# Altium footprint library Аналоговые-mm.PcbLib: 44 footprints (part 2 of 3)
Each footprint in its own frame and in the unit in brackets; x right, y up, seen from the top. Pads: shape width x height; smd on the part's side, far side on the other; paste and mask are expansions set on the pad; w line width, h text height; cw(c..) or ccw(c..) is an arc to the next point about the centre after c.
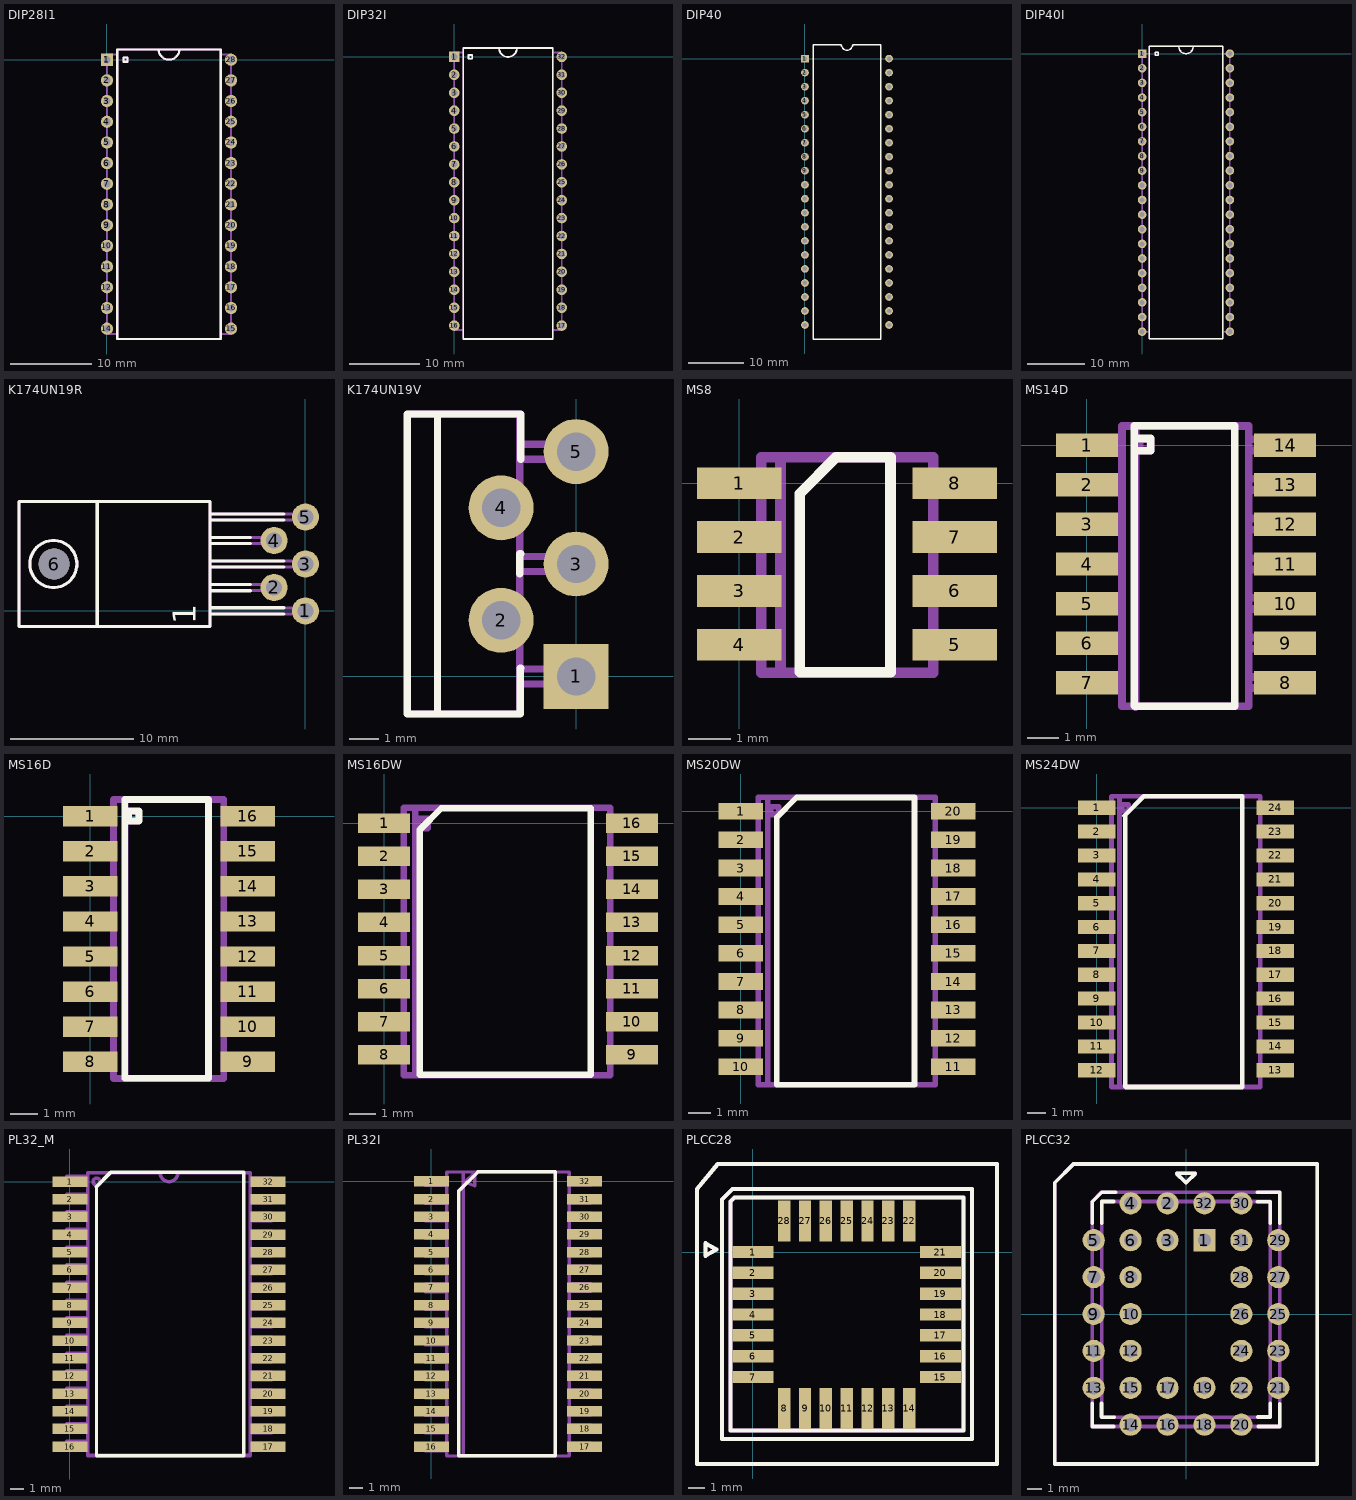
[diagram p1: the footprints below, top view; thin cyan lines are the x and y axes]

## DIP28I1 [mm]
pads (28):
  rect 1.5x1.5 hole 0.9: 1(0,0)
  round 1.5 hole 0.9: 2(0,-2.54) 3(0,-5.08) 4(0,-7.62) 5(0,-10.16) 6(0,-12.7) 7(0,-15.24) 8(0,-17.78) 9(0,-20.32) 10(0,-22.86) 11(0,-25.4) 12(0,-27.94) 13(0,-30.48) 14(0,-33.02) 15(15.24,-33.02) 16(15.24,-30.48) 17(15.24,-27.94) 18(15.24,-25.4) 19(15.24,-22.86) 20(15.24,-20.32) 21(15.24,-17.78) 22(15.24,-15.24) 23(15.24,-12.7) 24(15.24,-10.16) 25(15.24,-7.62) 26(15.24,-5.08) 27(15.24,-2.54) 28(15.24,0)
Top Overlay:
  lines w0.254: 6.35,1.272 ccw(c7.62,1.27) 8.89,1.27 ; 1.27,-34.29 13.97,-34.29 13.97,1.27 1.27,1.27 1.27,-34.29 ; 2.032,-0.254 2.032,0.254 2.54,0.254 2.54,-0.254 2.032,-0.254
Mechanical 1:
  lines w0.254: 1.27,-33.655 0,-33.655 0,0.635 1.27,0.635 ; 6.35,1.272 ccw(c7.62,1.27) 8.89,1.27 ; 13.97,-33.655 15.24,-33.655 15.24,0.635 13.97,0.635 ; 1.27,-34.29 13.97,-34.29 13.97,1.27 1.27,1.27 1.27,-34.29 ; 2.032,-0.254 2.032,0.254 2.54,0.254 2.54,-0.254 2.032,-0.254

## DIP32I [mm]
pads (32):
  rect 1.5x1.5 hole 0.9: 1(0,0)
  round 1.5 hole 0.9: 2(0,-2.54) 3(0,-5.08) 4(0,-7.62) 5(0,-10.16) 6(0,-12.7) 7(0,-15.24) 8(0,-17.78) 9(0,-20.32) 10(0,-22.86) 11(0,-25.4) 12(0,-27.94) 13(0,-30.48) 14(0,-33.02) 15(0,-35.56) 16(0,-38.1) 17(15.24,-38.1) 18(15.24,-35.56) 19(15.24,-33.02) 20(15.24,-30.48) 21(15.24,-27.94) 22(15.24,-25.4) 23(15.24,-22.86) 24(15.24,-20.32) 25(15.24,-17.78) 26(15.24,-15.24) 27(15.24,-12.7) 28(15.24,-10.16) 29(15.24,-7.62) 30(15.24,-5.08) 31(15.24,-2.54) 32(15.24,0)
Top Overlay:
  lines w0.25: 6.35,1.272 ccw(c7.62,1.27) 8.89,1.27 ; 1.27,-40.005 13.97,-40.005 13.97,1.27 1.27,1.27 1.27,-40.005 ; 2.032,-0.254 2.54,-0.254 2.54,0.254 2.032,0.254 2.032,-0.254
Mechanical 1:
  lines w0.25: 1.27,-38.735 0,-38.735 0,0.635 1.27,0.635 ; 6.35,1.272 ccw(c7.62,1.27) 8.89,1.27 ; 13.97,-38.735 15.24,-38.735 15.24,0.635 13.97,0.635 ; 1.27,-40.005 13.97,-40.005 13.97,1.27 1.27,1.27 1.27,-40.005 ; 2.032,-0.254 2.54,-0.254 2.54,0.254 2.032,0.254 2.032,-0.254

## DIP40 [mm]
pads (40):
  rect 1.4x1.4 hole 0.8: 1(0,0)
  round 1.4 hole 0.8: 2(0,-2.54) 3(0,-5.08) 4(0,-7.62) 5(0,-10.16) 6(0,-12.7) 7(0,-15.24) 8(0,-17.78) 9(0,-20.32) 10(0,-22.86) 11(0,-25.4) 12(0,-27.94) 13(0,-30.48) 14(0,-33.02) 15(0,-35.56) 16(0,-38.1) 17(0,-40.64) 18(0,-43.18) 19(0,-45.72) 20(0,-48.26) 21(15.24,-48.26) 22(15.24,-45.72) 23(15.24,-43.18) 24(15.24,-40.64) 25(15.24,-38.1) 26(15.24,-35.56) 27(15.24,-33.02) 28(15.24,-30.48) 29(15.24,-27.94) 30(15.24,-25.4) 31(15.24,-22.86) 32(15.24,-20.32) 33(15.24,-17.78) 34(15.24,-15.24) 35(15.24,-12.7) 36(15.24,-10.16) 37(15.24,-7.62) 38(15.24,-5.08) 39(15.24,-2.54) 40(15.24,0)
Top Overlay:
  lines w0.254: 1.524,-50.8 13.716,-50.8 13.716,2.54 8.636,2.54 cw(c7.62,2.54) 6.604,2.54 1.524,2.54 1.524,-50.8

## DIP40I [mm]
pads (40):
  rect 1.5x1.5 hole 0.9: 1(0,0)
  round 1.5 hole 0.9: 2(0,-2.54) 3(0,-5.08) 4(0,-7.62) 5(0,-10.16) 6(0,-12.7) 7(0,-15.24) 8(0,-17.78) 9(0,-20.32) 10(0,-22.86) 11(0,-25.4) 12(0,-27.94) 13(0,-30.48) 14(0,-33.02) 15(0,-35.56) 16(0,-38.1) 17(0,-40.64) 18(0,-43.18) 19(0,-45.72) 20(0,-48.26) 21(15.24,-48.26) 22(15.24,-45.72) 23(15.24,-43.18) 24(15.24,-40.64) 25(15.24,-38.1) 26(15.24,-35.56) 27(15.24,-33.02) 28(15.24,-30.48) 29(15.24,-27.94) 30(15.24,-25.4) 31(15.24,-22.86) 32(15.24,-20.32) 33(15.24,-17.78) 34(15.24,-15.24) 35(15.24,-12.7) 36(15.24,-10.16) 37(15.24,-7.62) 38(15.24,-5.08) 39(15.24,-2.54) 40(15.24,0)
Top Overlay:
  lines w0.25: 6.35,1.272 ccw(c7.62,1.27) 8.89,1.27 ; 1.27,-49.53 13.97,-49.53 13.97,1.27 1.27,1.27 1.27,-49.53 ; 2.286,-0.254 2.286,0.254 2.794,0.254 2.794,-0.254 2.286,-0.254
Mechanical 1:
  lines w0.25: 1.27,-48.26 0,-48.26 0,0 1.27,0 ; 6.35,1.272 ccw(c7.62,1.27) 8.89,1.27 ; 13.97,-48.26 15.24,-48.26 15.24,0 13.97,0 ; 1.27,-49.53 13.97,-49.53 13.97,1.27 1.27,1.27 1.27,-49.53 ; 2.286,-0.254 2.286,0.254 2.794,0.254 2.794,-0.254 2.286,-0.254

## K174UN19R [mm]
pads (6):
  round 2.2 hole 1.3: 1(0,0) 2(-2.54,1.905) 3(0,3.81) 4(-2.54,5.715) 5(0,7.62)
  round 2.5 hole 2.5: 6(-20.396,3.81)
Top Overlay:
  circle w0.25: c-20.447,3.81 r1.905
  lines w0.25: -16.891,-1.27 -16.891,8.89 ; -7.751,3.555 -1.755,3.555 ; -7.744,7.882 -1.748,7.882 ; -7.737,-0.234 -1.741,-0.234 ; -7.737,0.259 -1.741,0.259 ; -7.737,4.049 -1.741,4.049 ; -7.737,7.374 -1.741,7.374 ; -7.73,1.639 -4.448,1.639 ; -7.73,2.161 -4.448,2.161 ; -7.73,5.458 -4.448,5.458 ; -7.73,5.966 -4.448,5.966 ; -23.241,-1.27 -7.747,-1.27 -7.747,8.89 -23.241,8.89 -23.241,-1.27
  text "1" at -8.275,-1.091 h3.17
Mechanical 1:
  circle w0.25: c-20.447,3.81 r1.905
  lines w0.25: -16.891,-1.27 -16.891,8.89 ; -7.747,-0.254 -0.635,-0.254 -0.635,0.254 -7.747,0.254 ; -7.747,1.651 -3.175,1.651 -3.175,2.159 -7.747,2.159 ; -7.747,3.556 -0.635,3.556 -0.635,4.064 -7.747,4.064 ; -7.747,5.461 -3.175,5.461 -3.175,5.969 -7.747,5.969 ; -7.747,7.366 -0.635,7.366 -0.635,7.874 -7.747,7.874 ; -23.241,-1.27 -7.747,-1.27 -7.747,8.89 -23.241,8.89 -23.241,-1.27

## K174UN19V [mm]
pads (5):
  rect 2.2x2.2 hole 1.3: 1(0,0)
  round 2.2 hole 1.3: 2(-2.54,1.905) 3(0,3.81) 4(-2.54,5.715) 5(0,7.62)
Top Overlay:
  lines w0.25: -4.7,-1.254 -4.7,8.877 ; -1.917,3.481 -1.917,4.16 -1.883,4.16 ; -1.883,0.273 -1.9,0.273 -1.9,-1.271 -5.719,-1.271 -5.719,6.722 -5.719,8.894 -2.766,8.894 -1.883,8.894 -1.883,7.367
Mechanical 1:
  lines w0.25: -1.905,-0.254 -0.635,-0.254 -0.635,0.254 -1.905,0.254 ; -1.905,3.556 -0.635,3.556 -0.635,4.064 -1.905,4.064 ; -1.905,7.366 -0.635,7.366 -0.635,7.874 -1.905,7.874 ; -4.699,-1.27 -5.715,-1.27 -5.715,8.89 -4.699,8.89 ; -4.699,-1.27 -4.699,8.89 ; -4.699,-1.27 -1.905,-1.27 -1.905,8.89 -4.699,8.89

## MS8 [mm]
pads (8):
  rect 2x0.75 smd: 1(0,0) 2(0,-1.27) 3(0,-2.54) 4(0,-3.81) 5(5.08,-3.81) 6(5.08,-2.54) 7(5.08,-1.27) 8(5.08,0)
Top Overlay:
  lines w0.25: 1.424,-4.446 1.424,-0.244 2.28,0.612 3.468,0.612 3.566,0.612 3.566,0.602 3.566,-4.456 1.434,-4.456 1.424,-4.446
Mechanical 1:
  lines w0.25: 0.514,-3.994 -0.502,-3.994 -0.502,-3.638 0.514,-3.638 ; 0.514,-2.729 -0.502,-2.729 -0.502,-2.373 0.514,-2.373 ; 0.514,-1.453 -0.502,-1.453 -0.502,-1.098 0.514,-1.098 ; 0.514,-0.178 -0.502,-0.178 -0.502,0.178 0.514,0.178 ; 0.971,-4.47 0.971,0.584 ; 4.578,-2.719 5.594,-2.719 5.594,-2.363 4.578,-2.363 ; 4.578,-1.453 5.594,-1.453 5.594,-1.098 4.578,-1.098 ; 4.578,-0.178 5.594,-0.178 5.594,0.178 4.578,0.178 ; 4.588,-3.984 5.604,-3.984 5.604,-3.628 4.588,-3.628 ; 0.514,-4.47 4.578,-4.47 4.578,0.61 0.514,0.61 0.514,-4.47

## MS14D [mm]
pads (14):
  rect 2x0.75 smd: 1(0,0) 2(0,-1.27) 3(0,-2.54) 4(0,-3.81) 5(0,-5.08) 6(0,-6.35) 7(0,-7.62) 8(6.35,-7.62) 9(6.35,-6.35) 10(6.35,-5.08) 11(6.35,-3.81) 12(6.35,-2.54) 13(6.35,-1.27) 14(6.35,0)
Top Overlay:
  lines w0.25: 1.516,-8.356 1.516,0.621 4.741,0.621 4.741,-8.373 1.533,-8.373 ; 1.635,-0.176 2.026,-0.176 2.043,-0.176 2.043,0.214 1.669,0.214
Mechanical 1:
  lines w0.25: 1.104,-6.525 -0.217,-6.525 -0.217,-6.169 1.104,-6.169 ; 1.124,-7.8 -0.197,-7.8 -0.197,-7.445 1.124,-7.445 ; 1.124,-5.259 -0.197,-5.259 -0.197,-4.904 1.124,-4.904 ; 1.124,-3.994 -0.197,-3.994 -0.197,-3.638 1.124,-3.638 ; 1.124,-2.709 -0.197,-2.709 -0.197,-2.353 1.124,-2.353 ; 1.124,-1.443 -0.197,-1.443 -0.197,-1.088 1.124,-1.088 ; 1.124,-0.168 -0.197,-0.168 -0.197,0.188 1.124,0.188 ; 1.555,-8.397 1.555,0.594 ; 5.188,-7.79 6.508,-7.79 6.508,-7.435 5.188,-7.435 ; 5.188,-5.249 6.508,-5.249 6.508,-4.894 5.188,-4.894 ; 5.188,-3.984 6.508,-3.984 6.508,-3.628 5.188,-3.628 ; 5.188,-2.709 6.508,-2.709 6.508,-2.353 5.188,-2.353 ; 5.188,-1.433 6.508,-1.433 6.508,-1.078 5.188,-1.078 ; 5.188,-0.168 6.508,-0.168 6.508,0.188 5.188,0.188 ; 5.198,-6.525 6.518,-6.525 6.518,-6.169 5.198,-6.169 ; 1.124,-8.372 5.188,-8.372 5.188,0.62 1.124,0.62 1.124,-8.372 ; 1.682,-0.168 1.682,0.188 2.038,0.188 2.038,-0.168 1.682,-0.168

## MS16D [mm]
pads (16):
  rect 2x0.75 smd: 1(0,0) 2(0,-1.295) 3(0,-2.591) 4(0,-3.886) 5(0,-5.182) 6(0,-6.477) 7(0,-7.772) 8(0,-9.068) 9(5.817,-9.068) 10(5.817,-7.772) 11(5.817,-6.477) 12(5.817,-5.182) 13(5.817,-3.886) 14(5.817,-2.591) 15(5.817,-1.295) 16(5.817,0)
Top Overlay:
  lines w0.25: 1.277,-9.67 1.277,0.614 4.365,0.614 4.365,-9.67 1.294,-9.67 ; 1.362,0.19 1.803,0.19 1.803,-0.184 1.786,-0.184 1.412,-0.184 1.412,0.173
Mechanical 1:
  lines w0.254: 0.864,-9.246 -0.457,-9.246 -0.457,-8.89 0.864,-8.89 ; 0.864,-7.95 -0.457,-7.95 -0.457,-7.595 0.864,-7.595 ; 0.864,-6.655 -0.457,-6.655 -0.457,-6.299 0.864,-6.299 ; 0.864,-5.359 -0.457,-5.359 -0.457,-5.004 0.864,-5.004 ; 0.864,-4.064 -0.457,-4.064 -0.457,-3.708 0.864,-3.708 ; 0.864,-2.769 -0.457,-2.769 -0.457,-2.413 0.864,-2.413 ; 0.864,-1.473 -0.457,-1.473 -0.457,-1.118 0.864,-1.118 ; 0.864,-0.178 -0.457,-0.178 -0.457,0.178 0.864,0.178 ; 1.295,-9.677 1.295,0.584 ; 4.928,-9.246 6.248,-9.246 6.248,-8.89 4.928,-8.89 ; 4.928,-7.95 6.248,-7.95 6.248,-7.595 4.928,-7.595 ; 4.928,-6.655 6.248,-6.655 6.248,-6.299 4.928,-6.299 ; 4.928,-5.359 6.248,-5.359 6.248,-5.004 4.928,-5.004 ; 4.928,-4.064 6.248,-4.064 6.248,-3.708 4.928,-3.708 ; 4.928,-2.769 6.248,-2.769 6.248,-2.413 4.928,-2.413 ; 4.928,-1.473 6.248,-1.473 6.248,-1.118 4.928,-1.118 ; 4.928,-0.178 6.248,-0.178 6.248,0.178 4.928,0.178 ; 0.864,-9.677 4.928,-9.677 4.928,0.61 0.864,0.61 0.864,-9.677 ; 1.422,-0.178 1.422,0.178 1.778,0.178 1.778,-0.178 1.422,-0.178

## MS16DW [mm]
pads (16):
  rect 2x0.75 smd: 1(0,0) 2(0,-1.27) 3(0,-2.54) 4(0,-3.81) 5(0,-5.08) 6(0,-6.35) 7(0,-7.62) 8(0,-8.89) 9(9.525,-8.89) 10(9.525,-7.62) 11(9.525,-6.35) 12(9.525,-5.08) 13(9.525,-3.81) 14(9.525,-2.54) 15(9.525,-1.27) 16(9.525,0)
Top Overlay:
  lines w0.25: 1.38,-9.666 1.38,-0.24 2.2,0.58 7.934,0.58 7.934,-9.666 1.398,-9.666
Mechanical 1:
  lines w0.25: 0.754,-6.515 -0.567,-6.515 -0.567,-6.159 0.754,-6.159 ; 0.764,-9.066 -0.557,-9.066 -0.557,-8.71 0.764,-8.71 ; 0.764,-7.81 -0.557,-7.81 -0.557,-7.455 0.764,-7.455 ; 0.764,-5.259 -0.557,-5.259 -0.557,-4.904 0.764,-4.904 ; 0.764,-3.974 -0.557,-3.974 -0.557,-3.618 0.764,-3.618 ; 0.764,-2.709 -0.557,-2.709 -0.557,-2.353 0.764,-2.353 ; 0.764,-1.453 -0.557,-1.453 -0.557,-1.098 0.764,-1.098 ; 0.764,-0.188 -0.557,-0.188 -0.557,0.168 0.764,0.168 ; 1.195,-9.687 1.195,0.574 ; 8.688,-7.8 10.009,-7.8 10.009,-7.445 8.688,-7.445 ; 8.688,-6.535 10.009,-6.535 10.009,-6.179 8.688,-6.179 ; 8.688,-5.259 10.009,-5.259 10.009,-4.904 8.688,-4.904 ; 8.688,-3.994 10.009,-3.994 10.009,-3.638 8.688,-3.638 ; 8.688,-2.729 10.009,-2.729 10.009,-2.373 8.688,-2.373 ; 8.688,-1.453 10.009,-1.453 10.009,-1.098 8.688,-1.098 ; 8.688,-0.188 10.009,-0.188 10.009,0.168 8.688,0.168 ; 8.698,-9.066 10.019,-9.066 10.019,-8.71 8.698,-8.71 ; 0.764,-9.687 8.688,-9.687 8.688,0.6 0.764,0.6 0.764,-9.687 ; 1.322,-0.188 1.322,0.168 1.678,0.168 1.678,-0.188 1.322,-0.188

## MS20DW [mm]
pads (20):
  rect 2x0.75 smd: 1(0,0) 2(0,-1.27) 3(0,-2.54) 4(0,-3.81) 5(0,-5.08) 6(0,-6.35) 7(0,-7.62) 8(0,-8.89) 9(0,-10.16) 10(0,-11.43) 11(9.525,-11.43) 12(9.525,-10.16) 13(9.525,-8.89) 14(9.525,-7.62) 15(9.525,-6.35) 16(9.525,-5.08) 17(9.525,-3.81) 18(9.525,-2.54) 19(9.525,-1.27) 20(9.525,0)
Top Overlay:
  lines w0.25: 1.618,-12.234 7.786,-12.234 7.786,0.618 2.508,0.618 1.618,-0.272 1.618,-12.234
Mechanical 1:
  lines w0.25: 0.764,-11.606 -0.557,-11.606 -0.557,-11.251 0.764,-11.251 ; 0.774,-9.066 -0.547,-9.066 -0.547,-8.71 0.774,-8.71 ; 0.774,-7.8 -0.547,-7.8 -0.547,-7.445 0.774,-7.445 ; 0.774,-6.535 -0.547,-6.535 -0.547,-6.179 0.774,-6.179 ; 0.784,-10.331 -0.537,-10.331 -0.537,-9.975 0.784,-9.975 ; 0.784,-5.259 -0.537,-5.259 -0.537,-4.904 0.784,-4.904 ; 0.784,-3.994 -0.537,-3.994 -0.537,-3.638 0.784,-3.638 ; 0.784,-2.719 -0.537,-2.719 -0.537,-2.363 0.784,-2.363 ; 0.784,-1.443 -0.537,-1.443 -0.537,-1.088 0.784,-1.088 ; 0.784,-0.158 -0.537,-0.158 -0.537,0.198 0.784,0.198 ; 1.215,-12.248 1.215,0.604 ; 8.698,-10.321 10.019,-10.321 10.019,-9.965 8.698,-9.965 ; 8.708,-11.606 10.029,-11.606 10.029,-11.251 8.708,-11.251 ; 8.708,-9.066 10.029,-9.066 10.029,-8.71 8.708,-8.71 ; 8.708,-7.81 10.029,-7.81 10.029,-7.455 8.708,-7.455 ; 8.708,-6.535 10.029,-6.535 10.029,-6.179 8.708,-6.179 ; 8.708,-5.259 10.029,-5.259 10.029,-4.904 8.708,-4.904 ; 8.708,-1.443 10.029,-1.443 10.029,-1.088 8.708,-1.088 ; 8.708,-0.158 10.029,-0.158 10.029,0.198 8.708,0.198 ; 8.718,-3.984 10.039,-3.984 10.039,-3.628 8.718,-3.628 ; 8.718,-2.709 10.039,-2.709 10.039,-2.353 8.718,-2.353 ; 0.784,-12.248 8.708,-12.248 8.708,0.63 0.784,0.63 0.784,-12.248 ; 1.342,-0.158 1.342,0.198 1.698,0.198 1.698,-0.158 1.342,-0.158

## MS24DW [mm]
pads (24):
  rect 2x0.75 smd: 1(0,0) 2(0,-1.27) 3(0,-2.54) 4(0,-3.81) 5(0,-5.08) 6(0,-6.35) 7(0,-7.62) 8(0,-8.89) 9(0,-10.16) 10(0,-11.43) 11(0,-12.7) 12(0,-13.97) 13(9.525,-13.97) 14(9.525,-12.7) 15(9.525,-11.43) 16(9.525,-10.16) 17(9.525,-8.89) 18(9.525,-7.62) 19(9.525,-6.35) 20(9.525,-5.08) 21(9.525,-3.81) 22(9.525,-2.54) 23(9.525,-1.27) 24(9.525,0)
Top Overlay:
  lines w0.25: 1.536,-14.842 1.536,-0.424 1.488,-0.424 2.524,0.612 7.756,0.612 7.756,-14.866 1.558,-14.866
Mechanical 1:
  lines w0.25: 0.774,-14.157 -0.547,-14.157 -0.547,-13.802 0.774,-13.802 ; 0.774,-12.882 -0.547,-12.882 -0.547,-12.526 0.774,-12.526 ; 0.774,-11.616 -0.547,-11.616 -0.547,-11.261 0.774,-11.261 ; 0.774,-7.8 -0.547,-7.8 -0.547,-7.445 0.774,-7.445 ; 0.784,-6.535 -0.537,-6.535 -0.537,-6.179 0.784,-6.179 ; 0.784,-5.259 -0.537,-5.259 -0.537,-4.904 0.784,-4.904 ; 0.784,-3.994 -0.537,-3.994 -0.537,-3.638 0.784,-3.638 ; 0.794,-10.341 -0.527,-10.341 -0.527,-9.985 0.794,-9.985 ; 0.794,-9.076 -0.527,-9.076 -0.527,-8.72 0.794,-8.72 ; 0.794,-2.719 -0.527,-2.719 -0.527,-2.363 0.794,-2.363 ; 0.794,-1.473 -0.527,-1.473 -0.527,-1.118 0.794,-1.118 ; 0.794,-0.178 -0.527,-0.178 -0.527,0.178 0.794,0.178 ; 0.794,0.61 8.718,0.61 ; 8.718,-14.157 10.039,-14.157 10.039,-13.802 8.718,-13.802 ; 8.718,-12.882 10.039,-12.882 10.039,-12.526 8.718,-12.526 ; 8.718,-11.606 10.039,-11.606 10.039,-11.251 8.718,-11.251 ; 8.718,-10.341 10.039,-10.341 10.039,-9.985 8.718,-9.985 ; 8.718,-9.066 10.039,-9.066 10.039,-8.71 8.718,-8.71 ; 8.718,-7.8 10.039,-7.8 10.039,-7.445 8.718,-7.445 ; 8.718,-6.525 10.039,-6.525 10.039,-6.169 8.718,-6.169 ; 8.718,-5.259 10.039,-5.259 10.039,-4.904 8.718,-4.904 ; 8.718,-3.994 10.039,-3.994 10.039,-3.638 8.718,-3.638 ; 8.718,-2.719 10.039,-2.719 10.039,-2.363 8.718,-2.363 ; 8.718,-1.443 10.039,-1.443 10.039,-1.088 8.718,-1.088 ; 8.718,-0.178 10.039,-0.178 10.039,0.178 8.718,0.178 ; 1.352,-0.178 1.352,0.178 1.708,0.178 1.708,-0.178 1.352,-0.178
  lines w0.254: 0.794,0.61 0.794,-14.859 8.718,-14.859 8.718,0.61 ; 1.225,-14.859 1.225,0.584

## PL32_M [mm]
pads (32):
  rect 2.5x0.75 smd: 1(0,0) 2(0,-1.27) 3(0,-2.54) 4(0,-3.81) 5(0,-5.08) 6(0,-6.35) 7(0,-7.62) 8(0,-8.89) 9(0,-10.16) 10(0,-11.43) 11(0,-12.7) 12(0,-13.97) 13(0,-15.24) 14(0,-16.51) 15(0,-17.78) 16(0,-19.05) 17(14.25,-19.05) 18(14.25,-17.78) 19(14.25,-16.51) 20(14.25,-15.24) 21(14.25,-13.97) 22(14.25,-12.7) 23(14.25,-11.43) 24(14.25,-10.16) 25(14.25,-8.89) 26(14.25,-7.62) 27(14.25,-6.35) 28(14.25,-5.08) 29(14.25,-3.81) 30(14.25,-2.54) 31(14.25,-1.27) 32(14.25,0)
Top Overlay:
  lines w0.25: 1.913,-19.695 12.483,-19.695 12.483,-5.515 12.483,0.655 2.953,0.655 2.923,0.655 1.883,-0.385 1.913,-0.385 1.913,-19.66
Mechanical 1:
  circle w0.254: c1.923,-0.005 r0.254
  lines w0.25: 1.288,-19.182 -0.236,-19.182 -0.236,-18.674 1.288,-18.674 ; 1.288,-17.912 -0.236,-17.912 -0.236,-17.404 1.288,-17.404 ; 1.288,-16.642 -0.236,-16.642 -0.236,-16.134 1.288,-16.134 ; 1.288,-15.372 -0.236,-15.372 -0.236,-14.864 1.288,-14.864 ; 1.288,-14.102 -0.236,-14.102 -0.236,-13.594 1.288,-13.594 ; 1.288,-12.832 -0.236,-12.832 -0.236,-12.324 1.288,-12.324 ; 1.288,-11.562 -0.236,-11.562 -0.236,-11.054 1.288,-11.054 ; 1.288,-10.292 -0.236,-10.292 -0.236,-9.784 1.288,-9.784 ; 1.288,-9.022 -0.236,-9.022 -0.236,-8.514 1.288,-8.514 ; 1.288,-7.752 -0.236,-7.752 -0.236,-7.244 1.288,-7.244 ; 1.288,-6.482 -0.236,-6.482 -0.236,-5.974 1.288,-5.974 ; 1.288,-5.212 -0.236,-5.212 -0.236,-4.704 1.288,-4.704 ; 1.288,-3.942 -0.236,-3.942 -0.236,-3.434 1.288,-3.434 ; 1.288,-2.672 -0.236,-2.672 -0.236,-2.164 1.288,-2.164 ; 1.288,-1.402 -0.236,-1.402 -0.236,-0.894 1.288,-0.894 ; 1.288,-0.132 -0.236,-0.132 -0.236,0.376 1.288,0.376 ; 12.972,-19.309 14.496,-19.309 14.496,-18.801 12.972,-18.801 ; 12.972,-18.039 14.496,-18.039 14.496,-17.531 12.972,-17.531 ; 12.972,-16.769 14.496,-16.769 14.496,-16.261 12.972,-16.261 ; 12.972,-15.499 14.496,-15.499 14.496,-14.991 12.972,-14.991 ; 12.972,-14.229 14.496,-14.229 14.496,-13.721 12.972,-13.721 ; 12.972,-12.959 14.496,-12.959 14.496,-12.451 12.972,-12.451 ; 12.972,-11.689 14.496,-11.689 14.496,-11.181 12.972,-11.181 ; 12.972,-10.419 14.496,-10.419 14.496,-9.911 12.972,-9.911 ; 12.972,-9.149 14.496,-9.149 14.496,-8.641 12.972,-8.641 ; 12.972,-7.879 14.496,-7.879 14.496,-7.371 12.972,-7.371 ; 12.972,-6.609 14.496,-6.609 14.496,-6.101 12.972,-6.101 ; 12.972,-5.339 14.496,-5.339 14.496,-4.831 12.972,-4.831 ; 12.972,-4.069 14.496,-4.069 14.496,-3.561 12.972,-3.561 ; 12.972,-2.799 14.496,-2.799 14.496,-2.291 12.972,-2.291 ; 12.972,-1.529 14.496,-1.529 14.496,-1.021 12.972,-1.021 ; 12.972,-0.259 14.496,-0.259 14.496,0.249 12.972,0.249
  lines w0.254: 1.288,-19.69 12.972,-19.69 12.972,0.63 7.765,0.63 cw(c7.13,0.63) 6.495,0.63 1.288,0.63 1.288,-19.69

## PL32I [mm]
pads (32):
  rect 2.5x0.75 smd: 1(0,0) 2(0,-1.27) 3(0,-2.54) 4(0,-3.81) 5(0,-5.08) 6(0,-6.35) 7(0,-7.62) 8(0,-8.89) 9(0,-10.16) 10(0,-11.43) 11(0,-12.7) 12(0,-13.97) 13(0,-15.24) 14(0,-16.51) 15(0,-17.78) 16(0,-19.05) 17(11,-19.05) 18(11,-17.78) 19(11,-16.51) 20(11,-15.24) 21(11,-13.97) 22(11,-12.7) 23(11,-11.43) 24(11,-10.16) 25(11,-8.89) 26(11,-7.62) 27(11,-6.35) 28(11,-5.08) 29(11,-3.81) 30(11,-2.54) 31(11,-1.27) 32(11,0)
Top Overlay:
  lines w0.25: 3.328,0.69 8.904,0.69 8.904,-19.714 1.964,-19.714 1.964,-0.94 1.964,-0.686 3.356,0.706
Mechanical 1:
  lines w0.25: 1.092,-19.342 -0.432,-19.342 -0.432,-18.834 1.092,-18.834 ; 1.092,-18.072 -0.432,-18.072 -0.432,-17.564 1.092,-17.564 ; 1.092,-16.802 -0.432,-16.802 -0.432,-16.294 1.092,-16.294 ; 1.092,-15.532 -0.432,-15.532 -0.432,-15.024 1.092,-15.024 ; 1.092,-14.262 -0.432,-14.262 -0.432,-13.754 1.092,-13.754 ; 1.092,-12.992 -0.432,-12.992 -0.432,-12.484 1.092,-12.484 ; 1.092,-11.722 -0.432,-11.722 -0.432,-11.214 1.092,-11.214 ; 1.092,-10.452 -0.432,-10.452 -0.432,-9.944 1.092,-9.944 ; 1.092,-9.182 -0.432,-9.182 -0.432,-8.674 1.092,-8.674 ; 1.092,-7.912 -0.432,-7.912 -0.432,-7.404 1.092,-7.404 ; 1.092,-6.642 -0.432,-6.642 -0.432,-6.134 1.092,-6.134 ; 1.092,-5.372 -0.432,-5.372 -0.432,-4.864 1.092,-4.864 ; 1.092,-4.102 -0.432,-4.102 -0.432,-3.594 1.092,-3.594 ; 1.092,-2.832 -0.432,-2.832 -0.432,-2.324 1.092,-2.324 ; 1.092,-1.562 -0.432,-1.562 -0.432,-1.054 1.092,-1.054 ; 1.092,-0.292 -0.432,-0.292 -0.432,0.216 1.092,0.216 ; 2.3,-19.625 2.3,0.675 ; 3.1,0.475 3.1,-0.325 2.4,-0.025 3.1,0.575 ; 9.906,-19.304 11.43,-19.304 11.43,-18.796 9.906,-18.796 ; 9.906,-18.034 11.43,-18.034 11.43,-17.526 9.906,-17.526 ; 9.906,-16.764 11.43,-16.764 11.43,-16.256 9.906,-16.256 ; 9.906,-15.494 11.43,-15.494 11.43,-14.986 9.906,-14.986 ; 9.906,-14.224 11.43,-14.224 11.43,-13.716 9.906,-13.716 ; 9.906,-12.954 11.43,-12.954 11.43,-12.446 9.906,-12.446 ; 9.906,-11.684 11.43,-11.684 11.43,-11.176 9.906,-11.176 ; 9.906,-10.414 11.43,-10.414 11.43,-9.906 9.906,-9.906 ; 9.906,-9.144 11.43,-9.144 11.43,-8.636 9.906,-8.636 ; 9.906,-7.874 11.43,-7.874 11.43,-7.366 9.906,-7.366 ; 9.906,-6.604 11.43,-6.604 11.43,-6.096 9.906,-6.096 ; 9.906,-5.334 11.43,-5.334 11.43,-4.826 9.906,-4.826 ; 9.906,-4.064 11.43,-4.064 11.43,-3.556 9.906,-3.556 ; 9.906,-2.794 11.43,-2.794 11.43,-2.286 9.906,-2.286 ; 9.906,-1.524 11.43,-1.524 11.43,-1.016 9.906,-1.016 ; 9.906,-0.254 11.43,-0.254 11.43,0.254 9.906,0.254 ; 1.1,-19.725 9.9,-19.725 9.9,0.675 1.1,0.675 1.1,-19.725

## PLCC28 [mm]
pads (28):
  rect 2.5x0.75 smd: 1(0,0) 2(0,-1.27) 3(0,-2.54) 4(0,-3.81) 5(0,-5.08) 6(0,-6.35) 7(0,-7.62) 15(11.43,-7.62) 16(11.43,-6.35) 17(11.43,-5.08) 18(11.43,-3.81) 19(11.43,-2.54) 20(11.43,-1.27) 21(11.43,0)
  rect 0.75x2.5 smd: 8(1.905,-9.525) 9(3.175,-9.525) 10(4.445,-9.525) 11(5.715,-9.525) 12(6.985,-9.525) 13(8.255,-9.525) 14(9.525,-9.525) 22(9.525,1.905) 23(8.255,1.905) 24(6.985,1.905) 25(5.715,1.905) 26(4.445,1.905) 27(3.175,1.905) 28(1.905,1.905)
Top Overlay:
  lines w0.254: -3.412,-12.92 14.876,-12.92 14.876,5.368 -2.142,5.368 -3.412,3.844 -3.412,-12.92 ; -2.904,-0.22 -2.218,0.161 -2.904,0.542 -2.904,-0.22 ; -1.888,-11.396 13.352,-11.396 13.352,3.844 12.717,3.844 -1.253,3.844 -1.888,3.209 -1.888,-11.396 ; -1.38,-10.888 12.844,-10.888 12.844,3.336 -1.126,3.336 -1.38,3.082 -1.38,-10.888
Mechanical 1:
  lines w0.254: -3.412,-12.92 14.876,-12.92 14.876,5.368 -2.142,5.368 -3.412,3.844 -3.412,-12.92 ; -2.904,-0.22 -2.218,0.161 -2.904,0.542 -2.904,-0.22 ; -1.888,-11.396 13.352,-11.396 13.352,3.844 12.717,3.844 -1.253,3.844 -1.888,3.209 -1.888,-11.396 ; -1.38,-10.888 12.844,-10.888 12.844,3.336 -1.126,3.336 -1.38,3.082 -1.38,-10.888

## PLCC32 [mm]
pads (32):
  rect 1.5x1.5 hole 0.9: 1(1.25,5)
  round 1.5 hole 0.9: 2(-1.25,7.5) 3(-1.25,5) 4(-3.75,7.5) 5(-6.25,5) 6(-3.75,5) 7(-6.25,2.5) 8(-3.75,2.5) 9(-6.25,0) 10(-3.75,0) 11(-6.25,-2.5) 12(-3.75,-2.5) 13(-6.25,-5) 14(-3.75,-7.5) 15(-3.75,-5) 16(-1.25,-7.5) 17(-1.25,-5) 18(1.25,-7.5) 19(1.25,-5) 20(3.75,-7.5) 21(6.25,-5) 22(3.75,-5) 23(6.25,-2.5) 24(3.75,-2.5) 25(6.25,0) 26(3.75,0) 27(6.25,2.5) 28(3.75,2.5) 29(6.25,5) 30(3.75,7.5) 31(3.75,5) 32(1.25,7.5)
Top Overlay:
  lines w0.25: -6.35,-6.05 -6.35,-7.615 -6.345,-7.62 -4.89,-7.62 ; -6.35,6.16 -6.35,7.605 -5.705,8.25 -4.75,8.25 ; -5.725,-6.035 -5.725,-6.97 -5.71,-6.985 -4.88,-6.985 -4.875,-6.99 ; -5.715,6.14 -5.715,7.605 -5.7,7.62 -4.89,7.62 ; 4.82,7.6 5.71,7.6 5.715,7.605 5.715,6.14 ; 4.84,8.255 6.35,8.255 6.35,6.16 ; 4.875,-6.975 5.705,-6.975 5.705,-6.035 ; 4.895,-7.62 6.345,-7.62 6.35,-7.615 6.35,-6.085 ; -8.89,-10.16 8.89,-10.16 8.89,10.16 -7.62,10.16 -8.89,8.89 -8.89,-10.16 ; -0.635,9.525 0.635,9.525 0,8.89 -0.635,9.525
Mechanical 1:
  lines w0.25: -8.89,-10.16 8.89,-10.16 8.89,10.16 -7.62,10.16 -8.89,8.89 -8.89,-10.16 ; -6.35,-7.62 6.35,-7.62 6.35,8.255 -5.715,8.255 -6.35,7.62 -6.35,-7.62 ; -5.715,-6.985 5.715,-6.985 5.715,7.62 -5.715,7.62 -5.715,-6.985 ; -0.635,9.525 0.635,9.525 0,8.89 -0.635,9.525